# EAGLE library part 74*3126 (library 74x)
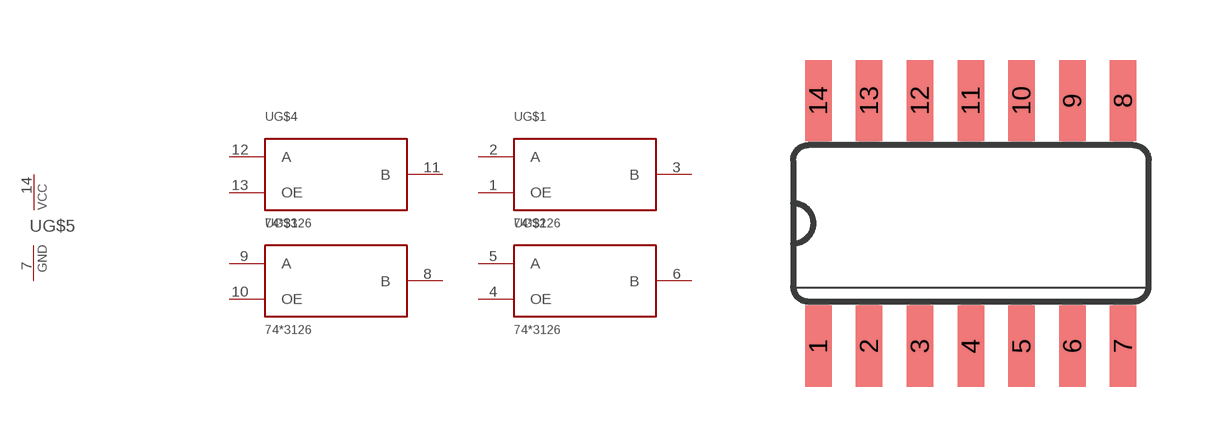
[diagram p1: symbol with the pads of SO14; footprint SO14]

Designator prefix -; gates G$1=BUSSWITCH G$2=BUSSWITCH G$3=BUSSWITCH G$4=BUSSWITCH G$5=PWRN

## 743126  [SO14]
1  G$1:OE
2  G$1:A
3  G$1:B
4  G$2:OE
5  G$2:A
6  G$2:B
7  G$5:GND  pwr
8  G$3:B
9  G$3:A
10  G$3:OE
11  G$4:B
12  G$4:A
13  G$4:OE
14  G$5:VCC  pwr

## Footprint SO14 (pad centres in mm)
Small Outline package 150 mil
smd 0.66 x 2.032: 1 -3.81,-3.073; 2 -2.54,-3.073; 3 -1.27,-3.073; 4 0,-3.073; 5 1.27,-3.073; 6 2.54,-3.073; 7 3.81,-3.073; 8 3.81,3.073; 9 2.54,3.073; 10 1.27,3.073; 11 0,3.073; 12 -1.27,3.073; 13 -2.54,3.073; 14 -3.81,3.073